# EAGLE library part MICROSD (library scono)
https://www.digikey.com/product-detail/en/molex-llc/1040310811/WM6357CT-ND/2804769
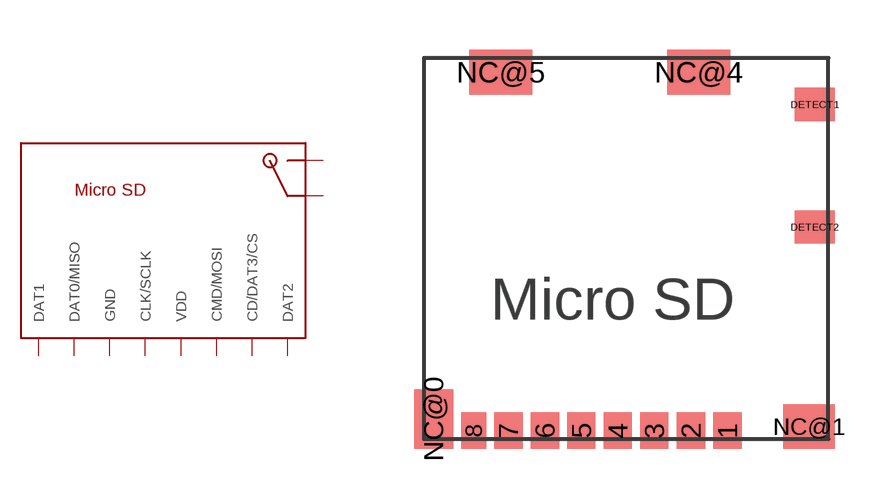
[diagram p35: symbol with the pads of MICROSD; footprint MICROSD]

Designator prefix P

## MICROSD  [MICROSD]
1  DAT2
2  CD/DAT3/CS
3  CMD/MOSI
4  VDD
5  CLK/SCLK
6  GND
7  DAT0/MISO
8  DAT1
DETECT1  DET0
DETECT2  DET1

## Footprint MICROSD (pad centres in mm)
https://www.digikey.com/product-detail/en/molex-llc/1040310811/WM6357CT-ND/2804769
smd 0.85 x 1.1: 1 3.105,0.25; 2 2.005,0.25; 3 0.9,0.25; 4 -0.2,0.25; 5 -1.3,0.25; 6 -2.4,0.25; 7 -3.499,0.25
smd 0.75 x 1.1: 8 -4.545,0.25
smd 1.2 x 1: DETECT1 5.74,10.1; DETECT2 5.74,6.4
smd 1.17 x 1.8: NC@0 -5.755,0.6
smd 1.55 x 1.35: NC@1 5.565,0.375
smd 1.9 x 1.35: NC@4 2.24,11.075; NC@5 -3.73,11.075